# EAGLE library part 182-009-113R531 (library PC-Engine)
NORCOMP - 182-009-113R531 - D SUB, PLUG, SOLDER, RIGHT ANGLE, 9WAY Source: Datasheet <https://www.norcomp.net/rohspdfs/Connectors/18Y/182/182-yyy-113Ryy1.pdf>
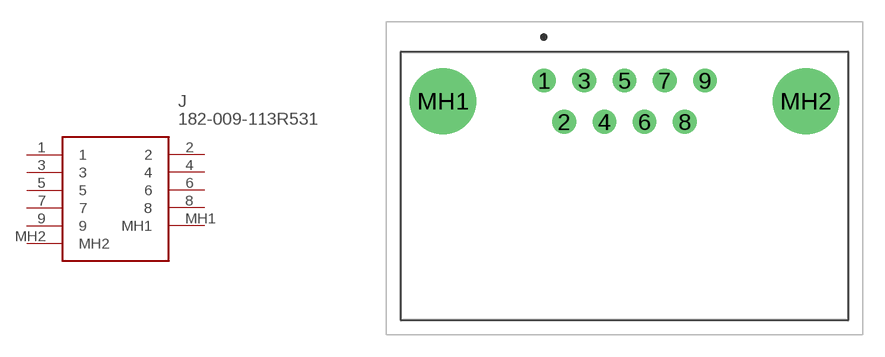
[diagram p3: symbol with the pads of 182009113R531; footprint 182009113R531]

Designator prefix J

## 182-009-113R531 (DESCRIPTION: NORCOMP - 182-009-113R531 - D SUB, PLUG, SOLDER, RIGHT ANGLE, 9WAY; HEIGHT: 12.55mm; MANUFACTURER_NAME: NorComp; MANUFACTURER_PART_NUMBER: 182-009-113R531; MOUSER_PART_NUMBER: 636-182-009-113R531; MOUSER_PRICE-STOCK: https://www.mouser.com/Search/Refine.aspx?Keyword=636-182-009-113R531; RS_PART_NUMBER: 1748821; RS_PRICE-STOCK: http://uk.rs-online.com/web/p/products/1748821)  [182009113R531]
1  1
2  2
3  3
4  4
5  5
6  6
7  7
8  8
9  9
MH1  MH1
MH2  MH2

## Footprint 182009113R531 (pad centres in mm)
182-009-113R531-1
drill 1.09 pad 1.635: 1 0,0; 2 1.385,-2.84; 3 2.77,0; 4 4.155,-2.84; 5 5.54,0; 6 6.925,-2.84; 7 8.31,0; 8 9.695,-2.84; 9 11.08,0
drill 3.05 pad 4.575: MH1 -6.956,-1.42; MH2 18.036,-1.42